# Altium schematic symbol library SCH - POWER - LINEAR VREG - TI TLV742P DQN.SchLib: 1 symbol
Pins are listed as number, name and electrical type; pins without a type are passive.

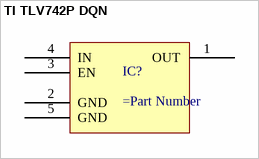
[diagram p0: symbol TI TLV742P DQN]

## TI TLV742P DQN
designator IC?
pins: 1 OUT, 2 GND, 3 EN, 4 IN, 5 GND